# Altium footprint library Gelnar.PcbLib: 295 footprints (part 2 of 19)
Each footprint in its own frame and in the unit in brackets; x right, y up, seen from the top. Pads: shape width x height; smd on the part's side, far side on the other; paste and mask are expansions set on the pad; w line width, h text height; cw(c..) or ccw(c..) is an arc to the next point about the centre after c.
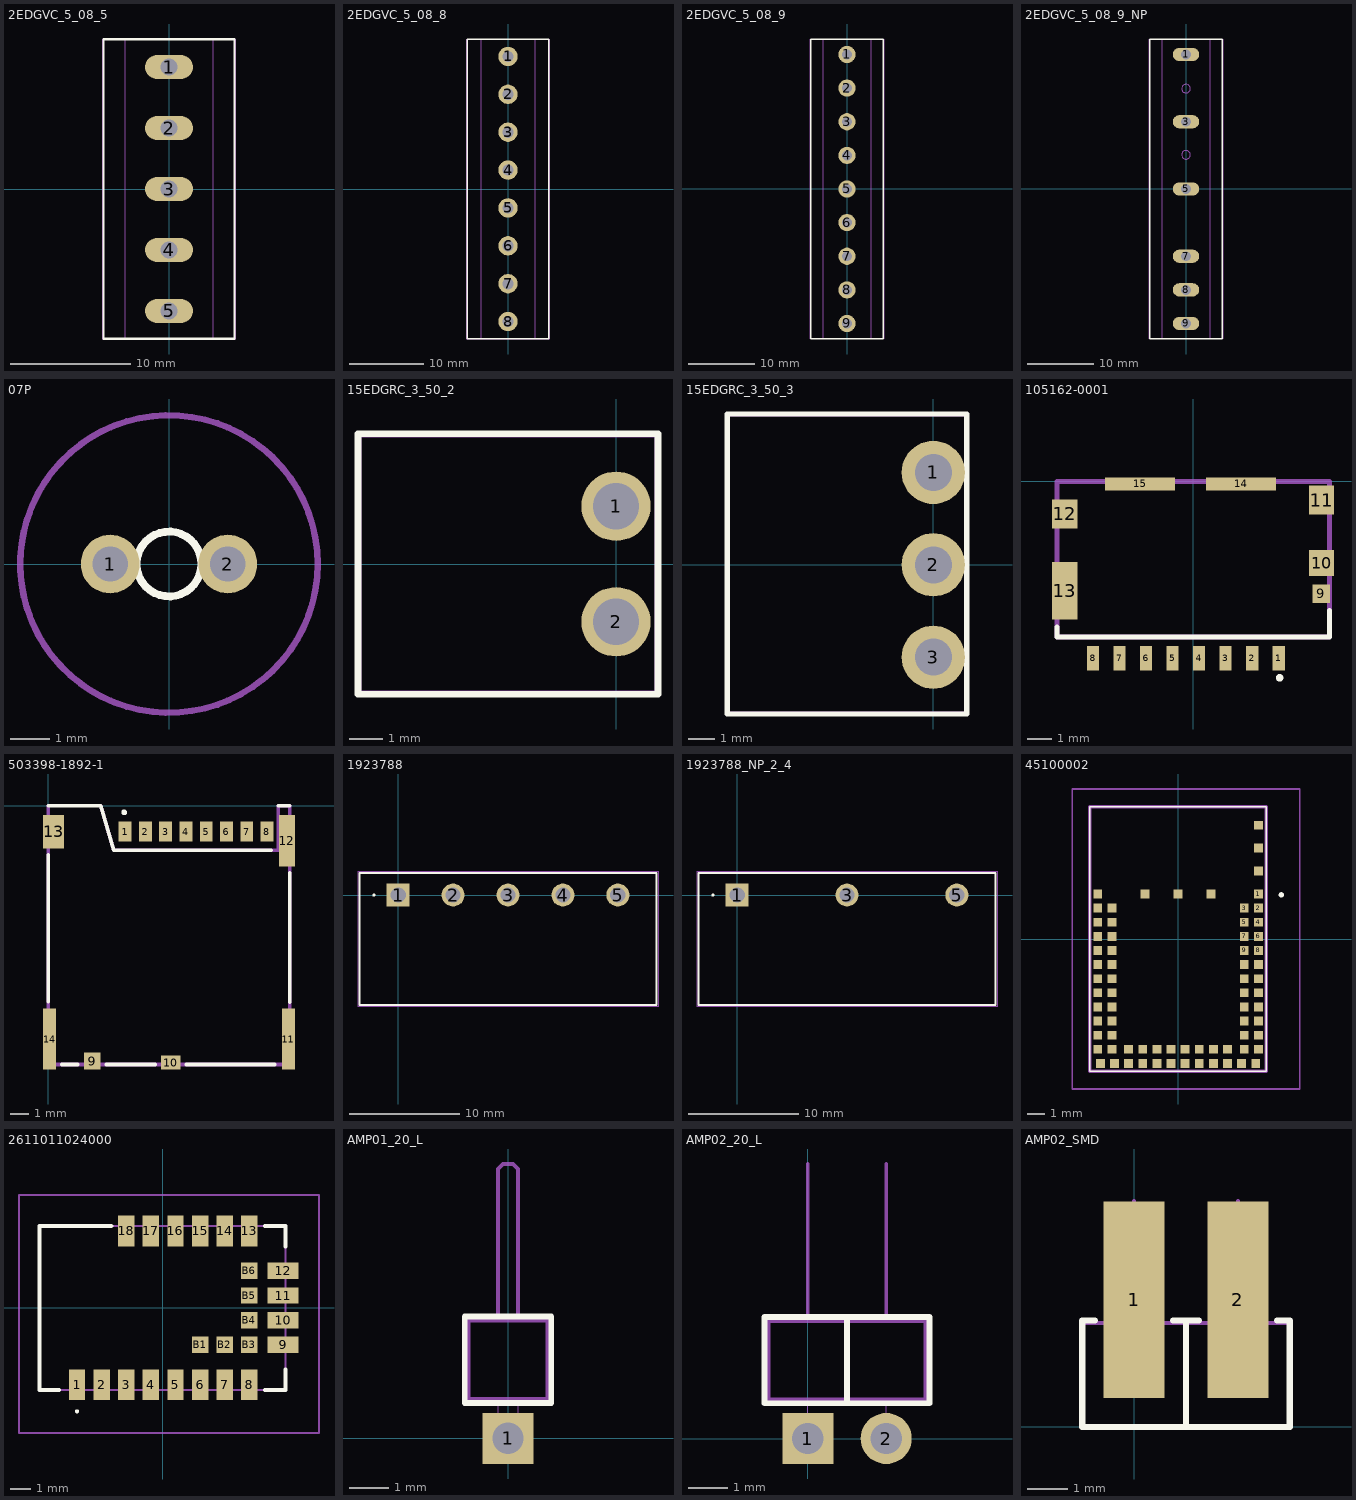
[diagram p1: the footprints below, top view; thin cyan lines are the x and y axes]

## 2EDGVC_5_08_5 [mm]
pads (5):
  oval 4x2 hole 1.4 mask+0.05: 1(0,10.16) 2(0,5.08) 3(0,0) 4(0,-5.08) 5(0,-10.16)
Top Overlay:
  lines w0.2: -5.461,-12.493 5.461,-12.493 5.461,12.493 -5.461,12.493 -5.461,-12.493
Mechanical 15:
  circle w0.1: c0,5 r0.65
  circle w0.1: c0,-5 r0.65
  lines w0.1: -5.524,-12.5 5.524,-12.5 5.524,12.5 -5.524,12.5 -5.524,-12.5
Mechanical 16:
  circle w0.1: c0,-5 r0.65
  circle w0.1: c0,5 r0.65
Mechanical 19:
  circle w0.1: c0,0 r0.5
  lines w0.1: -3.683,-12.5 -3.683,12.5 ; 3.683,-12.5 3.683,12.5
Mechanical 20:
  lines w0.1: -5.461,-12.493 5.461,-12.493 5.461,12.493 -5.461,12.493 -5.461,-12.493

## 2EDGVC_5_08_8 [mm]
pads (8):
  round 2.6 hole 1.5 mask+0.05: 1(0,17.78) 2(0,12.7) 3(0,7.62) 4(0,2.54) 5(0,-2.54) 6(0,-7.62) 7(0,-12.7) 8(0,-17.78)
Top Overlay:
  lines w0.2: -5.461,-20.113 5.461,-20.113 5.461,20.113 -5.461,20.113 -5.461,-20.113
Mechanical 15:
  circle w0.1: c0,12.62 r0.65
  circle w0.1: c0,2.62 r0.65
  lines w0.1: -5.524,-20.12 5.524,-20.12 5.524,20.12 -5.524,20.12 -5.524,-20.12
Mechanical 16:
  circle w0.1: c0,2.62 r0.65
  circle w0.1: c0,12.62 r0.65
Multi-Layer:
  text "Value" at -0.981,8.87 h0.75
Mechanical 19:
  circle w0.1: c0,7.62 r0.5
  lines w0.1: -3.683,-20.12 -3.683,20.12 ; 3.683,-20.12 3.683,20.12
Mechanical 20:
  lines w0.1: -5.461,-20.113 5.461,-20.113 5.461,20.113 -5.461,20.113 -5.461,-20.113

## 2EDGVC_5_08_9 [mm]
pads (9):
  round 2.6 hole 1.5 mask+0.05: 1(0,20.32) 2(0,15.24) 3(0,10.16) 4(0,5.08) 5(0,0) 6(0,-5.08) 7(0,-10.16) 8(0,-15.24) 9(0,-20.32)
Top Overlay:
  lines w0.2: -5.461,-22.653 5.461,-22.653 5.461,22.653 -5.461,22.653 -5.461,-22.653
Mechanical 15:
  circle w0.1: c0,15.16 r0.65
  circle w0.1: c0,5.16 r0.65
  lines w0.1: -5.524,-22.653 5.524,-22.653 5.524,22.66 -5.524,22.66 -5.524,-22.653
Mechanical 16:
  circle w0.1: c0,5.16 r0.65
  circle w0.1: c0,15.16 r0.65
Mechanical 19:
  circle w0.1: c0,10.16 r0.5
  lines w0.1: -3.683,-22.66 -3.683,22.66 ; 3.683,-22.66 3.683,22.66
Mechanical 20:
  lines w0.1: -5.461,-22.663 5.461,-22.663 5.461,22.653 -5.461,22.653 -5.461,-22.663

## 2EDGVC_5_08_9_NP [mm]
pads (6):
  oval 4x2 hole 1.5 mask+0.05: 1(0,20.32) 3(0,10.16) 5(0,0) 7(0,-10.16) 8(0,-15.24) 9(0,-20.32)
Top Overlay:
  lines w0.2: -5.461,-22.653 5.461,-22.653 5.461,22.653 -5.461,22.653 -5.461,-22.653
Mechanical 15:
  circle w0.1: c0,15.16 r0.65
  circle w0.1: c0,5.16 r0.65
  lines w0.1: -5.524,-22.653 5.524,-22.653 5.524,22.66 -5.524,22.66 -5.524,-22.653
Mechanical 16:
  circle w0.1: c0,5.16 r0.65
  circle w0.1: c0,15.16 r0.65
Multi-Layer:
  text "Value" at -0.981,11.41 h0.75
Mechanical 19:
  circle w0.1: c0,10.16 r0.5
  lines w0.1: -3.683,-22.66 -3.683,22.66 ; 3.683,-22.66 3.683,22.66
Mechanical 20:
  lines w0.1: -5.461,-22.663 5.461,-22.663 5.461,22.653 -5.461,22.653 -5.461,-22.663

## 07P [mm]
pads (2):
  round 1.5 hole 0.9 mask+0.05: 1(-1.5,0) 2(1.5,0)
Top Overlay:
  circle w0.2: c0,0 r0.826
Mechanical 15:
  circle w0.1: c0,0 r3.762
Multi-Layer:
  text "Value" at -1.299,-1.441 h0.75
Mechanical 20:
  circle w0.1: c0,0 r3.826

## 15EDGRC_3_50_2 [mm]
pads (2):
  round 2.1 hole 1.4 mask+0.05: 1(0,1.75) 2(0,-1.75)
Top Overlay:
  lines w0.2: -7.81,-3.937 1.27,-3.937 1.27,3.937 -7.81,3.937 -7.81,-3.937
Mechanical 15:
  circle w0.1: c0,-1.75 r0.65
  lines w0.1: -7.747,-3.873 1.206,-3.873 1.206,3.873 -7.747,3.873 -7.747,-3.873
Mechanical 16:
  circle w0.1: c0,-1.75 r0.65
Multi-Layer:
  text "Value" at -4.664,-0.425 h0.75
Mechanical 20:
  lines w0.1: -7.81,-3.937 1.27,-3.937 1.27,3.937 -7.81,3.937 -7.81,-3.937

## 15EDGRC_3_50_3 [mm]
pads (3):
  round 2.4 hole 1.4 mask+0.05: 1(0,3.5) 2(0,0) 3(0,-3.5)
Top Overlay:
  lines w0.2: -7.81,-5.651 1.27,-5.651 1.27,5.715 -7.81,5.715 -7.81,-5.651
Mechanical 15:
  circle w0.1: c0,-0.08 r0.65
  lines w0.01: -7.747,-5.588 1.206,-5.588 1.206,5.651 -7.747,5.651 -7.747,-5.588
Mechanical 16:
  circle w0.1: c0,-0.08 r0.65
Multi-Layer:
  text "Value" at -4.855,-0.425 h0.75
Mechanical 19:
  circle w0.1: c0,-3.5 r0.5
Mechanical 20:
  lines w0.01: -7.81,-5.651 1.27,-5.651 1.27,5.715 -7.81,5.715 -7.81,-5.651

## 105162-0001 [mm]
pads (15):
  rect 0.5x1 smd: 1(3.55,-7.34) 2(2.45,-7.34) 3(1.35,-7.34) 4(0.25,-7.34) 5(-0.85,-7.34) 6(-1.95,-7.34) 7(-3.05,-7.34) 8(-4.15,-7.34)
  rect 0.72x0.78 smd: 9(5.31,-4.66)
  rect 1.05x1.08 smd: 10(5.325,-3.39)
  rect 1.05x1.2 smd: 11(5.325,-0.78) 12(-5.325,-1.35)
  rect 1.05x2.39 smd: 13(-5.325,-4.535)
  rect 2.91x0.55 smd: 14(1.986,-0.105) 15(-2.204,-0.105)
Top Overlay:
  circle w0.2: c3.584,-8.15 r0.057
  lines w0.2: -5.65,-6.028 -5.65,-6.45 5.65,-6.45 5.65,-5.355
Mechanical 15:
  lines w0.2: -5.65,-6.45 5.65,-6.45 5.65,0 -5.65,0 -5.65,-6.45

## 503398-1892-1 [mm]
pads (14):
  rect 0.7x1.1 smd mask+0.05: 1(4.17,-1.4) 2(5.27,-1.4) 3(6.37,-1.4) 4(7.47,-1.4) 5(8.57,-1.4) 6(9.67,-1.4) 7(10.77,-1.4) 8(11.87,-1.4)
  rect 0.9x0.93 smd mask+0.05: 9(2.38,-13.865)
  rect 1.05x0.78 smd mask+0.05: 10(6.645,-13.94)
  rect 0.7x3.33 smd mask+0.05: 11(13.03,-12.665) 14(0.07,-12.665)
  rect 0.86x2.8 smd mask+0.05: 12(12.95,-1.9)
  rect 1.14x1.83 smd mask+0.05: 13(0.29,-1.415)
Top Overlay:
  circle w0.2: c4.116,-0.356 r0.055
  lines w0.2: 0,-10.648 0,-2.65 ; 0,0 2.849,0 3.554,-2.42 12.109,-2.42 ; 0.74,-14.05 1.6,-14.05 ; 3.15,-14.05 5.8,-14.05 ; 7.5,-14.05 12.3,-14.05 ; 12.474,0 13.1,0 ; 13.1,-10.65 13.1,-3.65
Mechanical 15:
  lines w0.01: 0,0 2.849,0
  lines w0.2: 0,0 0,-14.05 13.1,-14.05 13.1,0 12.474,0 12.474,-2.42 3.554,-2.42 2.849,0

## 1923788 [mm]
pads (5):
  rect 2.1x2.1 / inner round 2.1 / far side rect 2.1x2.1 hole 1.4 mask+0.05: 1(0,0)
  round 2.1 hole 1.4 mask+0.05: 2(5,0) 3(10,0) 4(15,0) 5(20,0)
Top Overlay:
  circle w0.2: c-2.2,0 r0.05
  lines w0.2: -3.5,-10 23.5,-10 23.5,2 -3.5,2 -3.5,-10
Mechanical 15:
  lines w0.1: -3.5,-10 23.5,-10 23.5,2 -3.5,2 -3.5,-10
Mechanical 20:
  lines w0.05: -3.65,-10.15 23.65,-10.15 23.65,2.15 -3.65,2.15 -3.65,-10.15

## 1923788_NP_2_4 [mm]
pads (3):
  rect 2.1x2.1 / inner round 2.1 / far side rect 2.1x2.1 hole 1.4 mask+0.05: 1(0,0)
  round 2.1 hole 1.4 mask+0.05: 3(10,0) 5(20,0)
Top Overlay:
  circle w0.2: c-2.2,0 r0.05
  lines w0.2: -3.5,-10 23.5,-10 23.5,2 -3.5,2 -3.5,-10
Mechanical 15:
  lines w0.1: -3.5,-10 23.5,-10 23.5,2 -3.5,2 -3.5,-10
Multi-Layer:
  text "Value" at 9.3,-6.55 h0.75
Mechanical 20:
  lines w0.05: -3.65,-10.15 23.65,-10.15 23.65,2.15 -3.65,2.15 -3.65,-10.15

## 45100002 [mm]
pads (72):
  rect 0.5x0.5 smd: 1(4.55,2.55) 2(4.55,1.75) 3(3.75,1.75) 4(4.55,0.95) 5(3.75,0.95) 6(4.55,0.15) 7(3.75,0.15) 8(4.55,-0.65) 9(3.75,-0.65) 10(4.55,-1.45) 11(3.75,-1.45) 12(4.55,-2.25) 13(3.75,-2.25) 14(4.55,-3.05) 15(3.75,-3.05) 16(4.55,-3.85) 17(3.75,-3.85) 18(4.55,-4.65) 19(3.75,-4.65) 20(4.55,-5.45) 21(3.75,-5.45) 22(4.55,-6.25) 23(3.75,-6.25) 24(4.4,-7.05) 25(3.6,-7.05) 26(2.8,-7.05) 27(2.8,-6.25) 28(2,-7.05) 29(2,-6.25) 30(1.2,-7.05) 31(1.2,-6.25) 32(0.4,-7.05) 33(0.4,-6.25) 34(-0.4,-7.05) 35(-0.4,-6.25) 36(-1.2,-7.05) 37(-1.2,-6.25) 38(-2,-7.05) 39(-2,-6.25) 40(-2.8,-7.05) 41(-2.8,-6.25) 42(-3.6,-7.05) 43(-4.4,-7.05) 44(-4.55,-6.25) 45(-3.75,-6.25) 46(-4.55,-5.45) 47(-3.75,-5.45) 48(-4.55,-4.65) 49(-3.75,-4.65) 50(-4.55,-3.85) 51(-3.75,-3.85) 52(-4.55,-3.05) 53(-3.75,-3.05) 54(-4.55,-2.25) 55(-3.75,-2.25) 56(-4.55,-1.45) 57(-3.75,-1.45) 58(-4.55,-0.65) 59(-3.75,-0.65) 60(-4.55,0.15) 61(-3.75,0.15) 62(-4.55,0.95) 63(-3.75,0.95) 64(-4.55,1.75) 65(-3.75,1.75) 66(-4.55,2.55) 67(4.55,3.85) 68(4.55,5.15) 69(4.55,6.45) 70(-1.875,2.55) 71(0,2.55) 72(1.875,2.55)
Top Overlay:
  lines w0.1: -5,-7.5 5,-7.5 5,7.5 -5,7.5 -5,-7.5
  lines w0.2: 5.8,2.5 5.8,2.5 ; 5.8,2.5 ccw(c5.85,2.5) 5.9,2.5 ; 5.8,2.5 cw(c5.85,2.5) 5.9,2.5 ; 5.8,2.5 5.8,2.5 ; 5.8,2.5 ccw(c5.85,2.5) 5.9,2.5 ; 5.9,2.5 5.9,2.5
Mechanical 15:
  lines w0.2: -5,-7.5 5,-7.5 5,7.5 -5,7.5 -5,-7.5
Mechanical 20:
  lines w0.1: -6,-8.5 6.9,-8.5 6.9,8.5 -6,8.5 -6,-8.5

## 2611011024000 [mm]
pads (24):
  rect 0.8x1.5 smd paste-0.112 mask+0.05: 1(-4.17,-3.75) 2(-2.97,-3.75) 3(-1.77,-3.75) 4(-0.57,-3.75) 5(0.63,-3.75) 6(1.83,-3.75) 7(3.03,-3.75) 8(4.23,-3.75) 13(4.23,3.75) 14(3.03,3.75) 15(1.83,3.75) 16(0.63,3.75) 17(-0.57,3.75) 18(-1.77,3.75)
  rect 1.5x0.8 smd paste-0.112 mask+0.05: 9(5.88,-1.8) 10(5.88,-0.6) 11(5.88,0.6) 12(5.88,1.8)
  rrect0% 0.8x0.8 smd paste-0.06 mask+0.05: B1(1.83,-1.8) B2(3.03,-1.8) B3(4.23,-1.8) B4(4.23,-0.6) B5(4.23,0.6) B6(4.23,1.8)
Top Overlay:
  lines w0.1: -5,-4 -6,-4 -6,4 -2.5,4 ; -4.17,-5.1 cw(c-4.17,-5.05) -4.17,-5 ; -4.17,-5.1 -4.17,-5.1 ; -4.17,-5.1 ccw(c-4.17,-5.05) -4.17,-5 ; -4.17,-5 -4.17,-5
  lines w0.2: -5.05,-4 -6,-4 -6,4 -2.5,4 ; 5,-4 6,-4 6,-3 ; 5,4 6,4 6,3
Mechanical 15:
  lines w0.1: -6,-4 6,-4 6,4 -6,4 -6,-4
Multi-Layer:
  text "Value" at 0.315,-1 h0.6
Mechanical 20:
  lines w0.1: -7,-6.1 7.63,-6.1 7.63,5.5 -7,5.5 -7,-6.1

## AMP01_20_L [mm]
height 9.5
pads (1):
  rect 1.3x1.3 hole 0.8 mask+0.05: 1(0,0)
Top Overlay:
  lines w0.15: -1.1,0.9 1.1,0.9 1.1,3.1 -1.1,3.1 -1.1,0.9
Mechanical 15:
  lines w0.01: -0.254,0 0.254,0 0.254,1 -0.254,1 -0.254,0
  lines w0.1: -1,1 1,1 1,3 -1,3 -1,1 ; -0.254,3 -0.254,6.858 -0.127,6.985 0.127,6.985 0.254,6.858 0.254,3 -0.254,3
Mechanical 16:
  lines w0.01: -0.254,0 0.254,0 0.254,1 -0.254,1 -0.254,0
  lines w0.1: -1,1 1,1 1,3 -1,3 -1,1 ; -0.254,3 -0.254,6.858 -0.127,6.985 0.127,6.985 0.254,6.858 0.254,3 -0.254,3
Mechanical 20:
  lines w0.1: -1.1,0.9 1.1,0.9 1.1,3.1 -1.1,3.1 -1.1,0.9

## AMP02_20_L [mm]
height 9.5
pads (2):
  rect 1.3x1.3 hole 0.8 mask+0.05: 1(0,0)
  round 1.3 hole 0.8 mask+0.05: 2(2,0)
Top Overlay:
  lines w0.15: 1,0.9 1,3.1 ; -1.1,0.9 3.1,0.9 3.1,3.1 -1.1,3.1 -1.1,0.9
Mechanical 15:
  lines w0.01: 0,0 0,1 ; 2,0 2,1
  lines w0.1: 0,3 0,7 ; 1,1 1,3 ; 2,3 2,7 ; -1,1 3,1 3,3 -1,3 -1,1
Multi-Layer:
  text "Value" at -0.185,-1.625 h0.75
Mechanical 20:
  lines w0.1: -1.1,0.9 3.1,0.9 3.1,3.1 -1.1,3.1 -1.1,0.9

## AMP02_SMD [mm]
pads (2):
  rect 1.5x4.8 smd mask+0.05: 1(0,3.111) 2(2.54,3.111)
Top Overlay:
  lines w0.15: -0.953,2.603 -1.27,2.603 -1.27,0 1.27,0 ; 0.953,2.603 1.27,2.603 ; 1.587,2.603 1.27,2.603 ; 3.492,2.603 3.81,2.603 3.81,0 1.27,0 ; 1.27,0 1.27,2.603 ; 1.27,0 1.27,2.603
Mechanical 15:
  lines w0.1: 0,1.27 0,5.524 ; 2.54,1.27 2.54,5.524 ; 1.27,0 1.27,2.54 ; 1.27,0 -1.27,0 -1.27,2.54 1.27,2.54 ; 1.27,0 3.81,0 3.81,2.54 1.27,2.54 ; 1.27,0 1.27,2.54
Multi-Layer:
  text "Value" at 0.191,-1.143 h0.6